# Altium schematic symbol library Коннекторы.SchLib: 1 symbol
Pins are listed as number, name and electrical type; pins without a type are passive.

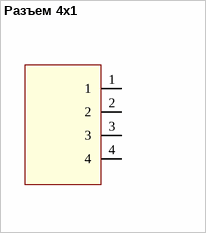
[diagram p0: symbol Разъем 4x1]

## Разъем 4x1
designator X?
Value: *; ComponentLink1Description: link; ComponentLink1URL: *
footprint YX-XH-4
pins: 1, 2, 3, 4